# Altium footprint library B6V2.PcbLib: 21 footprints (part 1 of 2)
Each footprint in its own frame and in the unit in brackets; x right, y up, seen from the top. Pads: shape width x height; smd on the part's side, far side on the other; paste and mask are expansions set on the pad; w line width, h text height; cw(c..) or ccw(c..) is an arc to the next point about the centre after c.
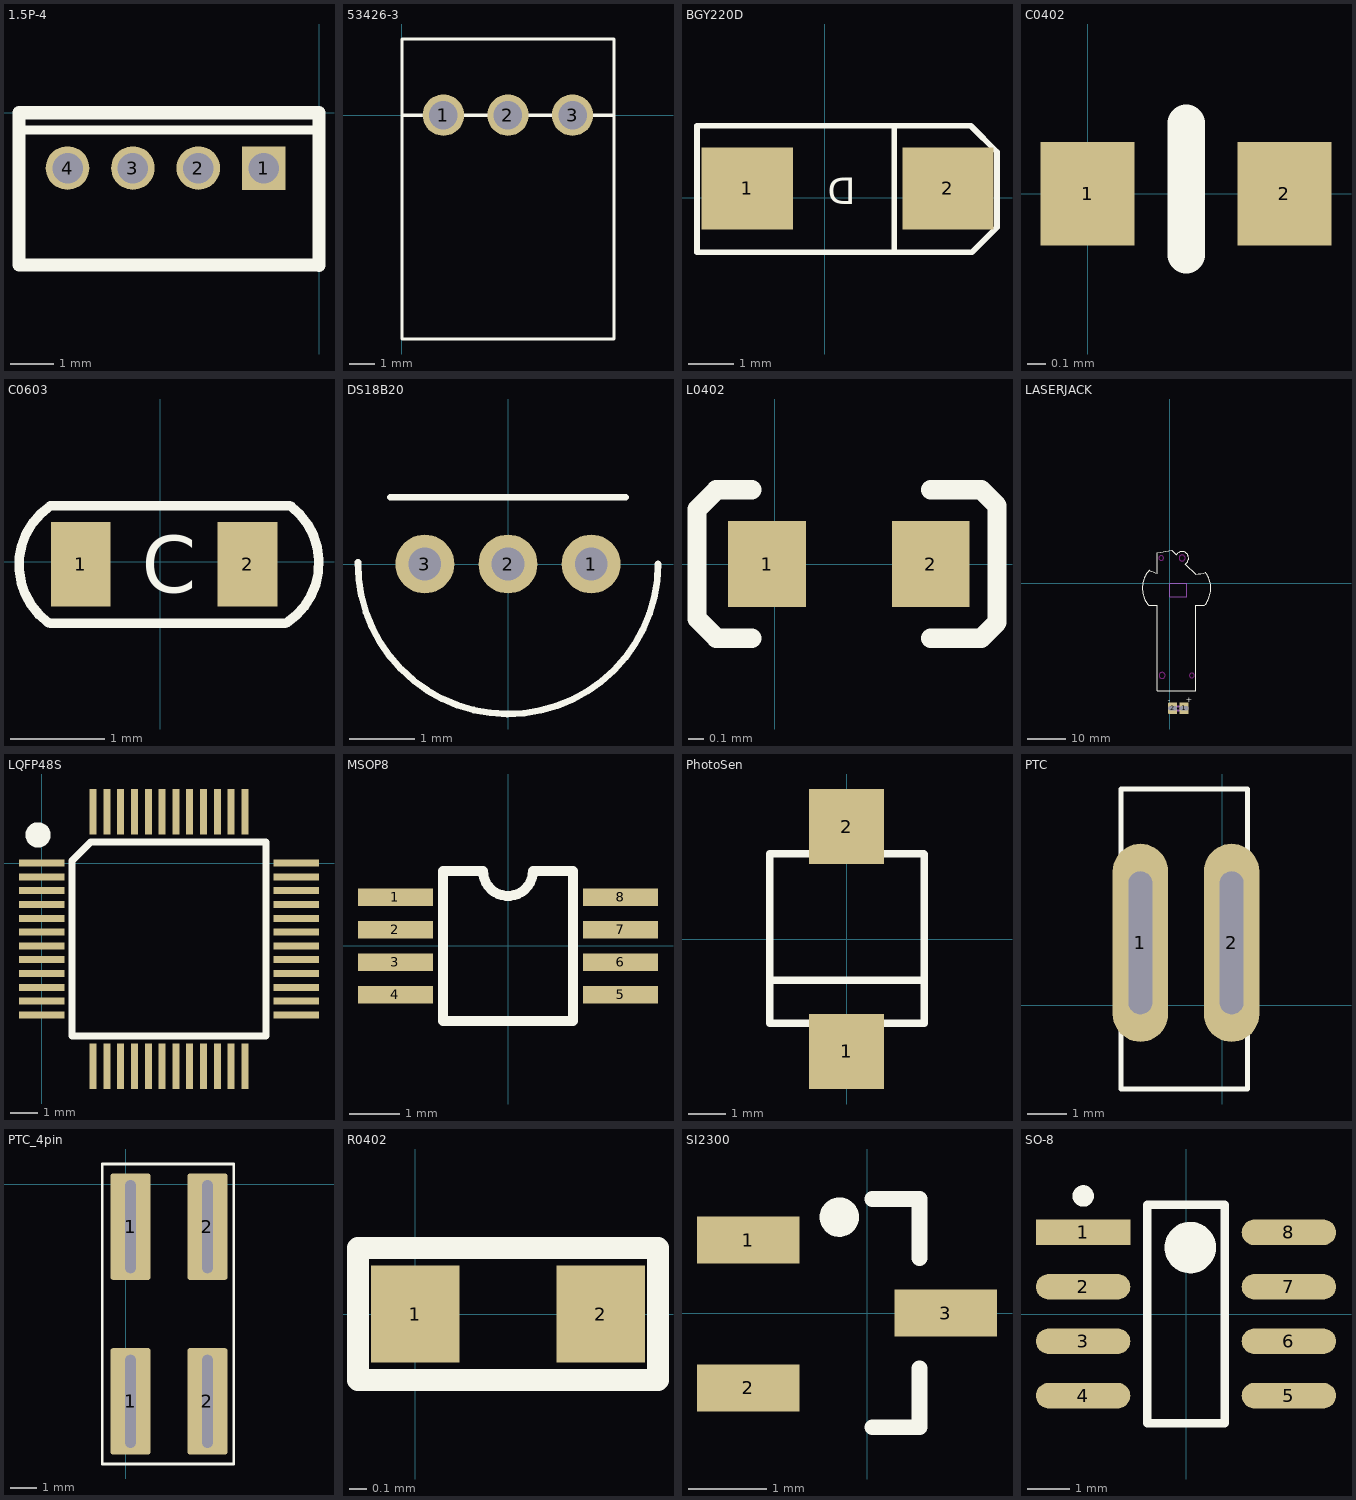
[diagram p0: the footprints below, top view; thin cyan lines are the x and y axes]

## 1.5P-4 [mm]
height 2.54
pads (4):
  rect 1x1 hole 0.7: 1(-1.27,-1.27)
  round 1 hole 0.7: 2(-2.77,-1.27) 3(-4.27,-1.27) 4(-5.77,-1.27)
Top Overlay:
  lines w0.203: -6.807,-0.394 -0.013,-0.394
  lines w0.305: 0,-3.5 0,0 -6.883,0 -6.883,-3.492 0,-3.492

## 53426-3 [mm]
height 6.7
pads (3):
  round 1.6 hole 1.1: 1(1.6,0) 2(4.1,0) 3(6.6,0)
Top Overlay:
  lines w0.127: 0,0 0,2.946 8.204,2.946 8.204,0 ; 0,0 0,-8.661 8.204,-8.661 8.204,0 ; 0,0 8.204,0

## BGY220D [mm]
height 2.54
pads (2):
  rect 2x1.8 smd: 1(-1.7,0.2) 2(2.7,0.2)
Top Overlay:
  lines w0.127: 1.525,-1.15 1.525,1.55 ; -2.8,-1.2 3.225,-1.2 3.775,-0.65 3.775,1 3.2,1.575 -2.8,1.575 -2.8,-1.2
  text "D" at 0.675,-0.15 h0.58

## C0402 [mil] "CAP_NP_C0402"
height 393.7
pads (2):
  rect 20x22 smd: 1(0,0) 2(42,0)
Top Overlay:
  lines w8: 21,-13 21,15

## C0603 [mm]
pads (2):
  rect 0.635x0.9 smd: 1(-0.845,-0.031) 2(0.93,-0.031)
Top Overlay:
  lines w0.102: -1.192,-0.652 cw(c-0.743,-0.037) -1.17,0.595 1.38,0.594 ; -1.17,-0.656 1.33,-0.656 ; 1.346,-0.655 ccw(c0.93,-0.016) 1.395,0.588
  text "C" at -0.195,-0.331 h0.61

## DS18B20 [mm]
pads (3):
  round 0.9 hole 0.5: 1(1.27,0) 2(0,0) 3(-1.27,0)
Top Overlay:
  lines w0.1: -2.29,0.025 ccw(c0,0) 2.29,0 ; -1.8,1.02 1.8,1.02

## L0402 [mil]
pads (2):
  rect 20x22 smd: 1(-2,0) 2(40,0)
Top Overlay:
  lines w5: -6,-19 -15,-19 -20,-14 -20,14 -15,19 -6,19 ; 40,-19 53,-19 57,-15 57,15 53,19 40,19

## LASERJACK [mm]
pads (2):
  rrect10% 2.3x3 hole 1 slot 2.2 at 0 deg: 1(3.75,-32.595) 2(0.76,-32.595)
Top Overlay:
  lines w0.127: 6.747,-28.02 -3.219,-28.02 -3.219,-5.75 -5.519,-5.75 cw(c-0.157,-1.25) -6.219,2.25 cw(c1.781,-2.369) -5.371,3.477 ccw(c0.25,15.741) -3.219,2.704 -3.219,8.054 0.478,8.706 1.643,7.542 2.141,7.96 cw(c3.234,6.658) 4.536,5.565 4.118,5.066 6.781,2.403 ccw(c4.25,23.264) 9.379,2.886 cw(c1.781,-2.369) 9.781,2.25 cw(c3.719,-1.25) 9.081,-5.75 6.781,-5.75 6.781,-27.986
  text "-" at -0.521,-31.166 h1.52
  text "+" at 4.191,-30.988 h1.52
Bottom Overlay:
  lines w0.127: 6.747,-28.02 6.781,-27.986
Keep-Out Layer:
  circle w0.127: c5.781,-24.02 r0.625
  circle w0.127: c-2.219,6.654 r0.625
  circle w0.127: c3.234,6.658 r0.8
  circle w0.127: c-1.994,-24.02 r0.8
Mechanical 1:
  lines w0.05: -0.244,-33.192 4.756,-33.192 4.756,-31.992 -0.244,-31.992 -0.244,-33.192
  lines w0.127: -0.1,-33.05 4.6,-33.05 4.6,-32.15 -0.1,-32.15 -0.1,-33.05 ; 0,-3.5 0,0 4.5,0 4.5,-3.5 0,-3.5

## LQFP48S [mil] "DPIN-0.5"
height 39.37
pads (48):
  rect 65x10 smd: 1(0.42,0.29) 2(0.42,-19.39) 3(0.42,-39.08) 4(0.42,-58.76) 5(0.42,-78.45) 6(0.42,-98.13) 7(0.42,-117.82) 8(0.42,-137.5) 9(0.42,-157.19) 10(0.42,-176.87) 11(0.42,-196.56) 12(0.42,-216.24) 25(362.63,-216.24) 26(362.63,-196.56) 27(362.63,-176.87) 28(362.63,-157.19) 29(362.63,-137.5) 30(362.63,-117.82) 31(362.63,-98.13) 32(362.63,-78.45) 33(362.63,-58.76) 34(362.63,-39.08) 35(362.63,-19.39) 36(362.63,0.29)
  rect 10x65 smd: 13(73.26,-289.08) 14(92.94,-289.08) 15(112.63,-289.08) 16(132.31,-289.08) 17(152,-289.08) 18(171.68,-289.08) 19(191.37,-289.08) 20(211.05,-289.08) 21(230.74,-289.08) 22(250.42,-289.08) 23(270.11,-289.08) 24(289.79,-289.08) 37(289.79,73.13) 38(270.11,73.13) 39(250.42,73.13) 40(230.74,73.13) 41(211.05,73.13) 42(191.37,73.13) 43(171.68,73.13) 44(152,73.13) 45(132.31,73.13) 46(112.63,73.13) 47(92.94,73.13) 48(73.26,73.13)
Top Overlay:
  circle w25: c-4.93,40.29 r5.35
  lines w10: 43.73,-245.77 43.73,3.6 69.95,29.82 319.32,29.82 319.32,-245.77 43.73,-245.77

## MSOP8 [mm]
pads (8):
  rect 1.5x0.35 smd: 1(-2.25,0.975) 2(-2.25,0.325) 3(-2.25,-0.325) 4(-2.25,-0.975) 5(2.25,-0.975) 6(2.25,-0.325) 7(2.25,0.325) 8(2.25,0.975)
Top Overlay:
  lines w0.2: -1.3,-1.5 -1.3,1.5 -0.5,1.5 ccw(c0,1.5) 0.5,1.5 1.3,1.5 1.3,-1.5 -1.3,-1.5

## PhotoSen [mm]
height 2.54
pads (2):
  rect 2x2 smd: 1(0,-3) 2(0,3)
Top Overlay:
  lines w0.2: -2.045,2.258 -2.045,-2.242 2.055,-2.242 ; -2.045,2.28 2.055,2.28 ; -2.019,-1.099 2.07,-1.099 ; 2.07,-2.242 2.07,2.258

## PTC [mm]
pads (2):
  oval 1.4x5 hole 0.6 slot 3.6 at 90 deg: 1(-2.07,1.58) 2(0.23,1.58)
Top Overlay:
  lines w0.127: -2.565,-2.108 0.635,-2.108 0.635,5.461 -2.565,5.461 -2.565,5.359 -2.565,-2.108
Mechanical 1:
  lines w0.127: -2.3,0 -1.84,0 -1.84,3.16 -2.3,3.16 -2.3,0 ; 0,0 0.46,0 0.46,3.16 0,3.16 0,0

## PTC_4pin [mm]
pads (4):
  rrect10% 1.5x4 hole 0.4 slot 3.5 at 90 deg: 1(0.178,-8.179) 1(0.178,-1.6) 2(3.073,-8.179) 2(3.073,-1.6)
Top Overlay:
  lines w0.102: -0.889,-10.541 -0.889,0.762 4.064,0.762 4.064,-10.541 -0.102,-10.541 -0.889,-10.541
Mechanical 1:
  lines w0.127: -0.006,-9.79 -0.006,-6.59 0.344,-6.59 0.344,-9.79 -0.006,-9.79 ; -0.006,-3.19 -0.006,0.01 0.344,0.01 0.344,-3.19 -0.006,-3.19 ; 2.894,-9.79 2.894,-6.59 3.244,-6.59 3.244,-9.79 2.894,-9.79 ; 2.894,-3.19 2.894,0.01 3.244,0.01 3.244,-3.19 2.894,-3.19

## R0402 [mil] "RESISTOR-R0402"
pads (2):
  rect 20x22 smd: 1(0,0) 2(42,0)
Top Overlay:
  lines w5: -13,-15 55,-15 55,-7.5 55,7.5 55,15 -13,15 -13,-15

## SI2300 [mm] "SOT23, 3-Leads, Body 2.9x2.4mm (max), Pitch 0.95mm, IPC Medium Density"
height 0.93
pads (3):
  rect 1.3x0.6 smd: 1(-1.511,0.927) 2(-1.511,-0.95) 3(1,0)
Top Overlay:
  circle w0.25: c-0.354,1.219 r0.125
  lines w0.2: 0.065,-1.45 0.665,-1.45 0.665,-0.7 ; 0.065,1.45 0.665,1.45 0.665,0.7

## SO-8 [mm] "SOP, 8-Leads, Body 5.1x4.0mm (max), Pitch 1.27mm, IPC Medium Density"
height 1.753
pads (8):
  rect 2.2x0.6 smd: 1(-2.4,1.905)
  oval 2.2x0.6 smd: 2(-2.4,0.635) 3(-2.4,-0.635) 4(-2.4,-1.905) 5(2.4,-1.905) 6(2.4,-0.635) 7(2.4,0.635) 8(2.4,1.905)
Top Overlay:
  circle w0.25: c-2.4,2.755 r0.125
  circle w0.6: c0.1,1.55 r0.3
  lines w0.2: -0.9,-2.55 -0.9,2.55 0.9,2.55 0.9,-2.55 -0.9,-2.55